# Altium schematic symbol library ADM3050E.Schlib: 1 symbol
Pins are listed as number, name and electrical type; pins without a type are passive.

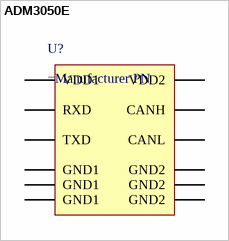
[diagram p0: symbol ADM3050E]

## ADM3050E
designator U?
Isolated CAN bus Transceiver
pins: 1 VDD1, 2 GND1, 3 RXD, 4 NC1 hidden, 5 NC2 hidden, 6 TXD, 7 GND1, 8 GND1, 9 GND2, 10 GND2, 11 NC3 hidden, 12 CANL, 13 CANH, 14 NC4 hidden, 15 GND2, 16 VDD2